# EAGLE library part MC3340 (library A-14732-40009)
Motorola electronic attenuator in DIP8 package
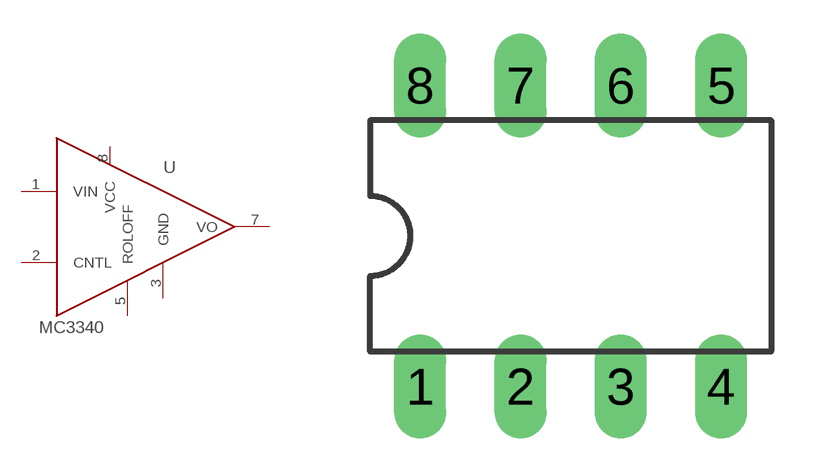
[diagram p7: symbol with the pads of DIP8N; footprint DIP8N]

Designator prefix U

## MC3340  [DIP8N]
1  VIN
2  CNTL  pas
3  GND  pwr
5  ROLOFF  pas
7  VO  out
8  VCC  pwr

## Footprint DIP8N (pad centres in mm)
Dual In Line Package 8 pin narrow
drill 0.813 long: 1 -3.81,-3.81; 2 -1.27,-3.81; 3 1.27,-3.81; 4 3.81,-3.81; 5 3.81,3.81; 6 1.27,3.81; 7 -1.27,3.81; 8 -3.81,3.81